# EAGLE library part BH1750FVI-TR (library BH1750FVI-TR_snapEDA)
Light to Digital Ambient Light Sensor Digital O/P 1lux to 65535lux 6-Pin WSOF Embossed T/R
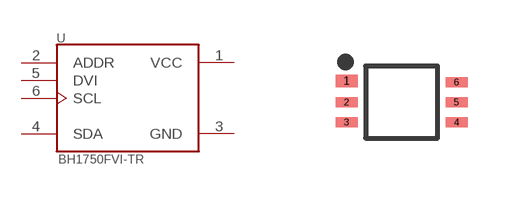
[diagram p0: symbol with the pads of SOTFL50P300X75-6N; footprint SOTFL50P300X75-6N]

Designator prefix U

## BH1750FVI-TR (Availability: Unavailable; Description: Light to Digital Ambient Light Sensor Digital O/P 1lux to 65535lux 6-Pin WSOF Embossed T/R; MF: Rohm; MP: BH1750FVI-TR; Package: SMD-6 Rohm; Price: None)  [SOTFL50P300X75-6N]
1  VCC  pwr
2  ADDR  in
3  GND  pwr
4  SDA
5  DVI  in
6  SCL  in

## Footprint SOTFL50P300X75-6N (pad centres in mm)
smd 0.55 x 0.3: 1 -1.375,0.525
smd 0.55 x 0.25: 2 -1.375,0; 3 -1.375,-0.5; 4 1.375,-0.5; 5 1.375,0; 6 1.375,0.5